# Altium footprint library Heatsink.PcbLib: 4 footprints
Each footprint in its own frame and in the unit in brackets; x right, y up, seen from the top. Pads: shape width x height; smd on the part's side, far side on the other; paste and mask are expansions set on the pad; w line width, h text height; cw(c..) or ccw(c..) is an arc to the next point about the centre after c.
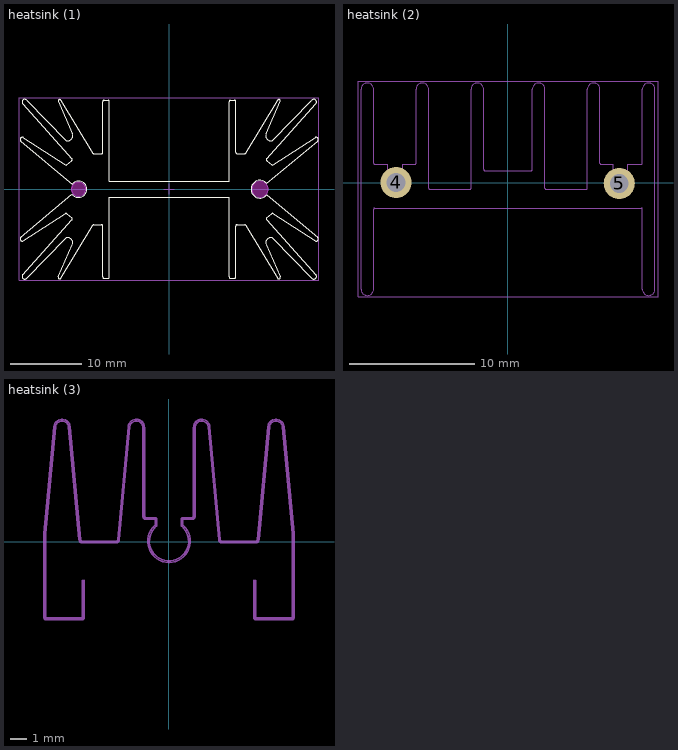
[diagram p0: the footprints below, top view; thin cyan lines are the x and y axes]

## heatsink (1) [mm]
Top Overlay:
  lines w0.013: -13.589,-0.762 -20.735,-6.764 ccw(c-20.543,-6.994) -20.38,-7.246 -14.529,-3.45 cw(c-14.42,-3.617) -14.292,-3.464 -13.617,-4.027 cw(c-13.745,-4.181) -13.596,-4.314 -20.482,-11.986 ccw(c-20.199,-12.24) -19.928,-12.507 -14.354,-6.827 cw(c-14.189,-7.519) -13.535,-7.802 -15.485,-12.313 ccw(c-15.302,-12.392) -15.13,-12.495 -10.676,-5.096 cw(c-10.505,-5.199) -10.505,-4.999 -9.469,-4.999 cw(c-9.469,-5.199) -9.269,-5.199 -9.269,-12.302 ccw(c-9.069,-12.302) -9.069,-12.502 -8.531,-12.502 ccw(c-8.531,-12.302) -8.331,-12.302 -8.331,-1.174 8.405,-1.174 8.405,-12.302 ccw(c8.605,-12.302) 8.605,-12.502 9.143,-12.502 ccw(c9.143,-12.302) 9.343,-12.302 9.343,-5.199 cw(c9.543,-5.199) 9.543,-4.999 10.579,-4.999 cw(c10.579,-5.199) 10.75,-5.096 15.204,-12.495 ccw(c15.376,-12.392) 15.559,-12.313 13.609,-7.802 cw(c14.263,-7.519) 14.428,-6.827 20.002,-12.507 ccw(c20.273,-12.24) 20.556,-11.986 13.67,-4.314 cw(c13.819,-4.181) 13.691,-4.027 14.366,-3.464 cw(c14.494,-3.617) 14.603,-3.45 20.454,-7.246 ccw(c20.617,-6.994) 20.809,-6.764 13.697,-0.83 cw(c12.737,-0.029) 13.697,0.772 20.809,6.706 ccw(c20.617,6.936) 20.454,7.188 14.603,3.392 cw(c14.494,3.559) 14.366,3.406 13.691,3.969 cw(c13.819,4.123) 13.67,4.256 20.556,11.928 ccw(c20.273,12.182) 20.002,12.449 14.428,6.769 cw(c14.263,7.461) 13.609,7.744 15.559,12.255 ccw(c15.376,12.334) 15.204,12.437 10.75,5.038 cw(c10.579,5.141) 10.579,4.941 9.543,4.941 cw(c9.543,5.141) 9.343,5.141 9.343,12.244 ccw(c9.143,12.244) 9.143,12.444 8.605,12.444 ccw(c8.605,12.244) 8.405,12.244 8.405,1.116 -8.331,1.116 -8.331,12.244 ccw(c-8.531,12.244) -8.531,12.444 -9.069,12.444 ccw(c-9.069,12.244) -9.269,12.244 -9.269,5.141 cw(c-9.469,5.141) -9.469,4.941 -10.505,4.941 cw(c-10.505,5.141) -10.676,5.038 -15.13,12.437 ccw(c-15.302,12.334) -15.485,12.255 -13.535,7.744 cw(c-14.189,7.461) -14.354,6.769 -19.928,12.449 ccw(c-20.199,12.182) -20.482,11.928 -13.596,4.256 cw(c-13.745,4.123) -13.617,3.969 -14.292,3.406 cw(c-14.42,3.559) -14.529,3.392 -20.38,7.188 ccw(c-20.543,6.936) -20.735,6.706 -13.536,0.699 ; -13.565,-0.743 ccw(c-12.663,-0.029) -13.547,0.706
Keep-Out Layer:
  board cut-out: -11.663,-0.029 -11.659,0.068 -11.688,0.259 -11.754,0.44 -11.854,0.606 -11.985,0.748 -12.141,0.863 -12.316,0.945 -12.503,0.991 -12.6,0.995 -12.8,0.995 -12.893,0.99 -13.075,0.945 -13.243,0.865 -13.393,0.753 -13.519,0.615 -13.615,0.454 -13.677,0.278 -13.705,0.093 -13.7,0 -13.7,-0.098 -13.662,-0.292 -13.586,-0.474 -13.477,-0.637 -13.337,-0.777 -13.174,-0.886 -12.992,-0.962 -12.798,-1 -12.7,-1 -12.6,-1 -12.508,-1 -12.327,-0.964 -12.156,-0.893 -12.003,-0.791 -11.872,-0.66 -11.77,-0.507 -11.699,-0.336 -11.663,-0.155 -11.663,-0.063
  board cut-out: 13.887,-0.029 13.889,0.08 13.851,0.295 13.771,0.498 13.653,0.682 13.502,0.839 13.322,0.964 13.122,1.051 12.909,1.098 12.8,1.1 12.6,1.1 12.497,1.092 12.297,1.037 12.112,0.943 11.948,0.815 11.813,0.658 11.711,0.477 11.647,0.28 11.622,0.075 11.629,-0.029 11.629,-0.14 11.673,-0.358 11.758,-0.564 11.881,-0.749 12.039,-0.906 12.223,-1.029 12.429,-1.114 12.647,-1.158 12.758,-1.158 12.8,-1.158 12.909,-1.156 13.122,-1.109 13.322,-1.022 13.502,-0.897 13.653,-0.74 13.771,-0.556 13.851,-0.353 13.889,-0.138
Mechanical 1:
  circle w0.013: c-12.663,-0.029 r1
  circle w0.013: c12.737,-0.029 r1.15
Mechanical 15:
  lines w0.1: -0.75,0 0.75,0 ; 0,-0.75 0,0.75 ; -21,-12.75 -21,12.75 21,12.75 21,-12.75 -21,-12.75
3D body "User Library-TO220_Heatsink.STEP": height 50.8, standoff -3.5, extent -20.88,-12.592 20.878,12.592

## heatsink (2) [mm]
height 17.62
pads (2):
  round 2.5 hole 1.5: 4(-8.925,0.04) 5(8.925,-0.04)
Keep-Out Layer:
  board cut-out: -8.475,-0.01 -8.475,0.089 -8.551,0.273 -8.692,0.414 -8.876,0.49 -8.975,0.49 -9.074,0.49 -9.258,0.414 -9.399,0.273 -9.475,0.089 -9.475,-0.01 -9.475,-0.109 -9.399,-0.293 -9.258,-0.434 -9.074,-0.51 -8.975,-0.51 -8.876,-0.51 -8.692,-0.434 -8.551,-0.293 -8.475,-0.109 -8.475,-0.01
  board cut-out: 9.525,-0.01 9.525,0.089 9.449,0.273 9.308,0.414 9.124,0.49 9.025,0.49 8.926,0.49 8.742,0.414 8.601,0.273 8.525,0.089 8.525,-0.01 8.525,-0.109 8.601,-0.293 8.742,-0.434 8.926,-0.51 9.025,-0.51 9.124,-0.51 9.308,-0.434 9.449,-0.293 9.525,-0.109 9.525,-0.01
Mechanical 1:
  circle w0.1: c-8.975,-0.01 r0.5
  circle w0.1: c9.025,-0.01 r0.5
  lines w0.1: -11.725,-8.51 ccw(c-11.225,-8.51) -11.225,-9.01 ccw(c-11.225,-8.51) -10.725,-8.51 -10.725,-2.11 cw(c-10.625,-2.11) -10.625,-2.01 10.675,-2.01 cw(c10.675,-2.11) 10.775,-2.11 10.775,-8.51 ccw(c11.275,-8.51) 11.275,-9.01 ccw(c11.275,-8.51) 11.775,-8.51 11.775,7.49 ccw(c11.275,7.49) 11.275,7.99 ccw(c11.275,7.49) 10.775,7.49 10.775,1.59 cw(c10.675,1.59) 10.675,1.49 9.625,1.49 9.625,0.09 cw(c9.025,0.09) 9.025,-0.51 cw(c9.025,0.09) 8.425,0.09 8.425,1.49 7.475,1.49 cw(c7.475,1.59) 7.375,1.59 7.375,7.49 ccw(c6.875,7.49) 6.875,7.99 ccw(c6.875,7.49) 6.375,7.49 6.375,-0.41 cw(c6.275,-0.41) 6.275,-0.51 3.075,-0.51 cw(c3.075,-0.41) 2.975,-0.41 2.975,7.49 ccw(c2.475,7.49) 2.475,7.99 ccw(c2.475,7.49) 1.975,7.49 1.975,1.09 cw(c1.875,1.09) 1.875,0.99 -1.825,0.99 cw(c-1.825,1.09) -1.925,1.09 -1.925,7.49 ccw(c-2.425,7.49) -2.425,7.99 ccw(c-2.425,7.49) -2.925,7.49 -2.925,-0.41 cw(c-3.025,-0.41) -3.025,-0.51 -6.225,-0.51 cw(c-6.225,-0.41) -6.325,-0.41 -6.325,7.49 ccw(c-6.825,7.49) -6.825,7.99 ccw(c-6.825,7.49) -7.325,7.49 -7.325,1.59 cw(c-7.425,1.59) -7.425,1.49 -8.375,1.49 -8.375,0.09 cw(c-8.975,0.09) -8.975,-0.51 cw(c-8.975,0.09) -9.575,0.09 -9.575,1.49 -10.625,1.49 cw(c-10.625,1.59) -10.725,1.59 -10.725,7.49 ccw(c-11.225,7.49) -11.225,7.99 ccw(c-11.225,7.49) -11.725,7.49 -11.725,-8.51
Mechanical 15:
  lines w0.1: -11.975,-9.11 -11.975,8.14 12.025,8.14 12.025,-9.11 -11.975,-9.11
3D body "User Library-YA25.STEP": height 25, standoff -4, extent -11.725,-9.01 11.775,7.99

## heatsink (3) [mm]
height 7.62
Mechanical 1:
  lines w0.1: -5.29,-2.356 -5.29,-4.656 ; -5.19,-2.356 -5.19,-4.656 ; 5.21,-2.356 5.21,-4.656 ; 5.31,-2.356 5.31,-4.656 ; -7.64,-4.656 ccw(c-7.54,-4.656) -7.54,-4.756 ; -7.64,-4.656 -7.64,0.494 ; -7.64,-4.656 -7.54,-4.656 ; -7.64,0.494 -7.54,0.489 ; -7.64,0.494 -7.033,7.05 ; -7.54,-4.756 -5.29,-4.756 ; -7.54,-4.756 -7.54,-4.656 ; -7.54,-4.656 -5.29,-4.656 ; -7.54,-4.656 -7.54,0.489 ; -7.54,0.489 -6.934,7.041 ; -7.033,7.05 cw(c-6.536,7.004) -6.038,7.05 ; -7.033,7.05 -6.934,7.041 ; -6.934,7.041 cw(c-6.536,7.004) -6.137,7.041 ; -6.137,7.041 -5.498,0.126 ; -6.137,7.041 -6.038,7.05 ; -6.038,7.05 -5.398,0.135 ; -5.498,0.126 ccw(c-5.299,0.144) -5.299,-0.056 ; -5.498,0.126 -5.398,0.135 ; -5.398,0.135 ccw(c-5.299,0.144) -5.299,0.044 ; -5.299,-0.056 -3.227,-0.056 ; -5.299,-0.056 -5.299,0.044 ; -5.299,0.044 -3.227,0.044 ; -5.29,-4.756 ccw(c-5.29,-4.656) -5.19,-4.656 ; -5.29,-4.756 -5.29,-4.656 ; -5.29,-4.656 -5.19,-4.656 ; -3.227,-0.056 ccw(c-3.227,0.144) -3.028,0.126 ; -3.227,-0.056 -3.227,0.044 ; -3.227,0.044 ccw(c-3.227,0.144) -3.127,0.135 ; -3.127,0.135 -2.488,7.05 ; -3.127,0.135 -3.028,0.126 ; -3.028,0.126 -2.388,7.041 ; -2.488,7.05 cw(c-1.99,7.004) -1.49,7.004 ; -2.488,7.05 -2.388,7.041 ; -2.388,7.041 cw(c-1.99,7.004) -1.59,7.004 ; -1.59,1.581 ccw(c-1.39,1.581) -1.39,1.381 ; -1.59,1.581 -1.59,7.004 ; -1.59,1.581 -1.49,1.581 ; -1.59,7.004 -1.49,7.004 ; -1.49,1.581 ccw(c-1.39,1.581) -1.39,1.481 ; -1.49,1.581 -1.49,7.004 ; -1.39,1.381 -0.84,1.381 ; -1.39,1.381 -1.39,1.481 ; -1.39,1.481 -0.84,1.481 ; -0.84,1.028 cw(c-3.286,-4.323) -0.74,0.981 ; -0.84,1.028 ccw(c0.01,0.044) 0.86,1.028 ; -0.84,1.028 -0.84,1.381 ; -0.84,1.381 -0.84,1.481 ; -0.84,1.381 -0.74,1.381 ; -0.84,1.481 cw(c-0.84,1.381) -0.74,1.381 ; -0.74,0.981 ccw(c0.01,0.044) 0.76,0.981 ; -0.74,0.981 -0.74,1.381 ; 0.76,0.981 cw(c3.306,-4.323) 0.86,1.028 ; 0.76,0.981 0.76,1.381 ; 0.76,1.381 cw(c0.86,1.381) 0.86,1.481 ; 0.76,1.381 0.86,1.381 ; 0.86,1.028 0.86,1.381 ; 0.86,1.381 1.41,1.381 ; 0.86,1.381 0.86,1.481 ; 0.86,1.481 1.41,1.481 ; 1.41,1.381 ccw(c1.41,1.581) 1.61,1.581 ; 1.41,1.381 1.41,1.481 ; 1.41,1.481 ccw(c1.41,1.581) 1.51,1.581 ; 1.51,1.581 1.51,7.004 ; 1.51,1.581 1.61,1.581 ; 1.51,7.004 cw(c2.01,7.004) 2.508,7.05 ; 1.51,7.004 1.61,7.004 ; 1.61,1.581 1.61,7.004 ; 1.61,7.004 cw(c2.01,7.004) 2.408,7.041 ; 2.408,7.041 3.048,0.126 ; 2.408,7.041 2.508,7.05 ; 2.508,7.05 3.147,0.135 ; 3.048,0.126 ccw(c3.247,0.144) 3.247,-0.056 ; 3.048,0.126 3.147,0.135 ; 3.147,0.135 ccw(c3.247,0.144) 3.247,0.044 ; 3.247,-0.056 5.319,-0.056 ; 3.247,-0.056 3.247,0.044 ; 3.247,0.044 5.319,0.044 ; 5.21,-4.656 ccw(c5.31,-4.656) 5.31,-4.756 ; 5.21,-4.656 5.31,-4.656 ; 5.31,-4.756 7.56,-4.756 ; 5.31,-4.756 5.31,-4.656 ; 5.31,-4.656 7.56,-4.656 ; 5.319,-0.056 ccw(c5.319,0.144) 5.518,0.126 ; 5.319,-0.056 5.319,0.044 ; 5.319,0.044 ccw(c5.319,0.144) 5.418,0.135 ; 5.418,0.135 6.058,7.05 ; 5.418,0.135 5.518,0.126 ; 5.518,0.126 6.157,7.041 ; 6.058,7.05 cw(c6.555,7.004) 7.053,7.05 ; 6.058,7.05 6.157,7.041 ; 6.157,7.041 cw(c6.555,7.004) 6.954,7.041 ; 6.954,7.041 7.56,0.489 ; 6.954,7.041 7.053,7.05 ; 7.053,7.05 7.66,0.494 ; 7.56,-4.756 ccw(c7.56,-4.656) 7.66,-4.656 ; 7.56,-4.756 7.56,-4.656 ; 7.56,-4.656 7.66,-4.656 ; 7.56,-4.656 7.56,0.489 ; 7.56,0.489 7.66,0.494 ; 7.66,-4.656 7.66,0.494
3D body "User Library-Heatsink-57AS.STEP": height 25, standoff 0, extent -7.55,-4.693 7.75,7.567

## heatsink (4) [mm]
3D body "User Library-577202B00000G.step": height 22.6, standoff 3.55, extent -6.223,-6.858 6.985,5.842